# EAGLE library part MOLEX_SL_32 (library molex-sl-connectors_jw)
Molex SL-Series PCB Header, 32-Pos, 0.1" (2.54mm) Centers
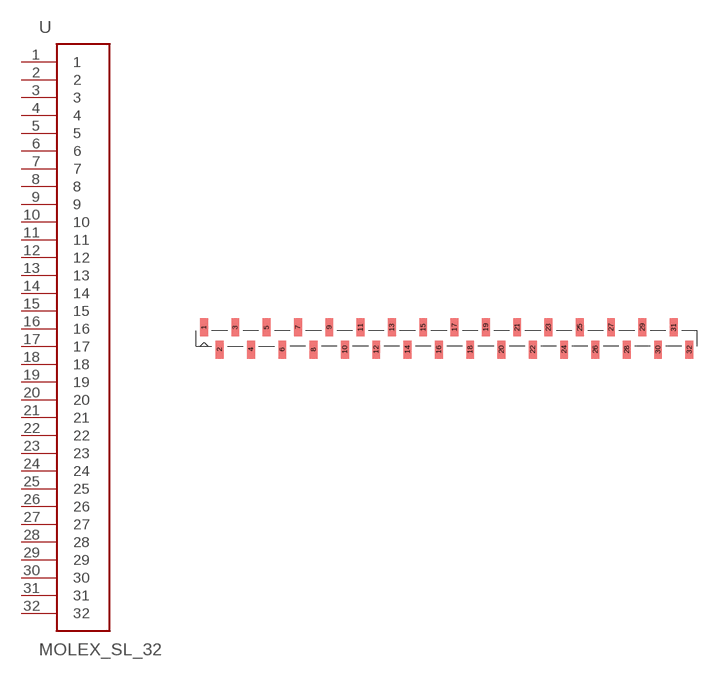
[diagram p26: symbol with the pads of SL_87898_32; footprint SL_87898_32]

Designator prefix -

## MOLEX_SL_32-87898  [SL_87898_32]
1  1
2  2
3  3
4  4
5  5
6  6
7  7
8  8
9  9
10  10
11  11
12  12
13  13
14  14
15  15
16  16
17  17
18  18
19  19
20  20
21  21
22  22
23  23
24  24
25  25
26  26
27  27
28  28
29  29
30  30
31  31
32  32

## Footprint SL_87898_32 (pad centres in mm)
SMD Vertical Header (no latch or pegs) Package also includes Pick-N-Place Cap Tube packaging w/o Pick-N-Place Cap: 87898-3221 87898-3222 87898-3224 87898-3225 87898-3226 Tube packaging w/ Pick-N-Place Cap: 87898-3231 87898-3232 87898-3234 87898-3235 87898-3236
smd 1.27 x 2.946: 1 -39.37,1.803; 2 -36.83,-1.803; 3 -34.29,1.803; 4 -31.75,-1.803; 5 -29.21,1.803; 6 -26.67,-1.803; 7 -24.13,1.803; 8 -21.59,-1.803; 9 -19.05,1.803; 10 -16.51,-1.803; 11 -13.97,1.803; 12 -11.43,-1.803; 13 -8.89,1.803; 14 -6.35,-1.803; 15 -3.81,1.803; 16 -1.27,-1.803; 17 1.27,1.803; 18 3.81,-1.803; 19 6.35,1.803; 20 8.89,-1.803; 21 11.43,1.803; 22 13.97,-1.803; 23 16.51,1.803; 24 19.05,-1.803; 25 21.59,1.803; 26 24.13,-1.803; 27 26.67,1.803; 28 29.21,-1.803; 29 31.75,1.803; 30 34.29,-1.803; 31 36.83,1.803; 32 39.37,-1.803